# Altium schematic symbol library SchLib_Main.SchLib: 425 symbols (part 10 of 11)
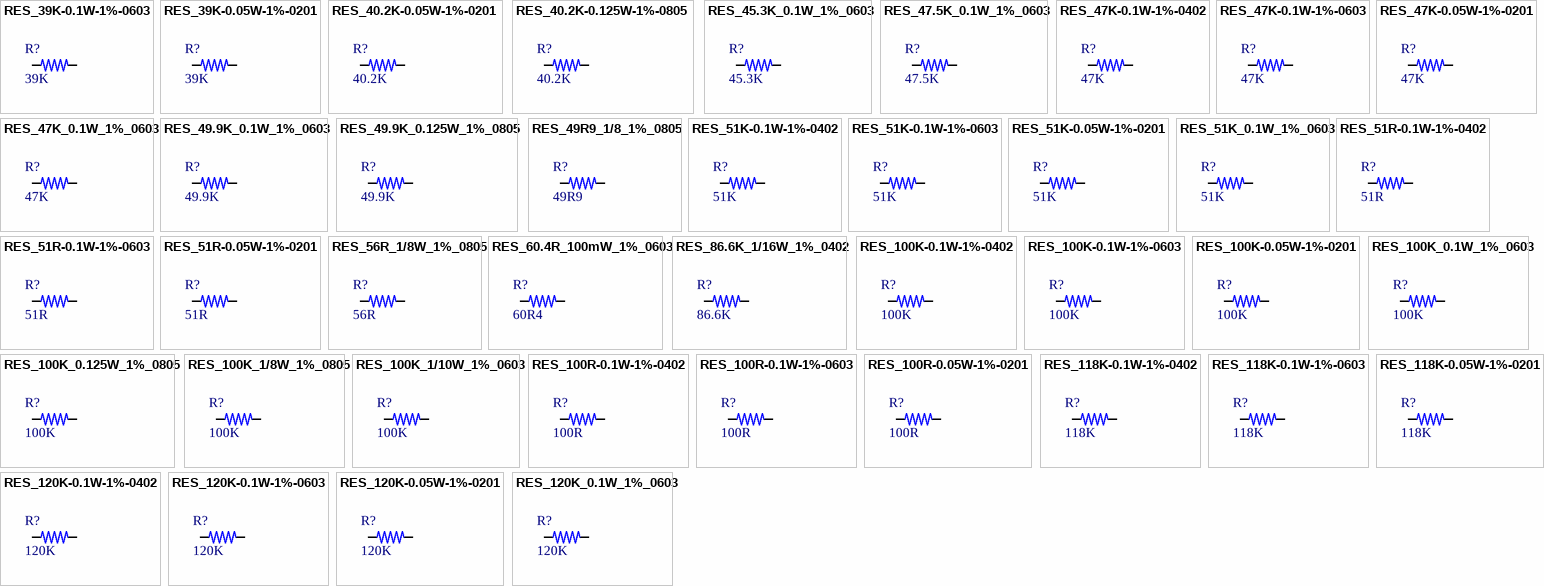
[diagram p25: symbols RES_39K-0.1W-1%-0603 to RES_120K_0.1W_1%_0603]

## RES_100R-0.1W-1%-0603
designator R?, comment 100R
100 Ohms ±1% 0.1W, 1/10W Chip Resistor 0603 (1608 Metric) Thick Film /; Manufacturer: Yageo; Manufacturer Part Number: RC0603FR-07100RL; Case/Package: 0603; Supplier-1: Digikey
footprint RES_0603 (CASE: 0603)
pins: 1, 2

## RES_100R-0.05W-1%-0201
designator R?, comment 100R
100 kOhms ±1% 0.05W, 1/20W Chip Resistor 0201 (0603 Metric) Automotive AEC-Q200 Thick Film /; Manufacturer: Panasonic Electronic Components; Manufacturer Part Number: ERJ-1GNF1003C; Case/Package: 0201; Supplier-1: Digikey
footprint RES_0201
pins: 1, 2

## RES_118K-0.1W-1%-0402
designator R?, comment 118K
118 kOhms ±1% 0.1W, 1/10W Chip Resistor 0402 (1005 Metric) Automotive AEC-Q200, Moisture Resistant Thick Film /; Manufacturer: KOA Speer Electronics, Inc.; Manuafcturer Part Number: RK73H1ETTP1183F; Case/Package: 0402; Supplier-1: Digikey
footprint RES_0402
pins: 1, 2

## RES_118K-0.1W-1%-0603
designator R?, comment 118K
118 kOhms ±1% 0.1W, 1/10W Chip Resistor 0603 (1608 Metric) Automotive AEC-Q200 Thick Film /; Manufacturer: Stackpole Electronics Inc; Manuafcturer Part Number: RMCF0603FT118K; Case/Package: 0603; Supplier-1: Digikey
footprint RES_0603 (CASE: 0603)
pins: 1, 2

## RES_118K-0.05W-1%-0201
designator R?, comment 118K
118 kOhms ±1% 0.05W, 1/20W Chip Resistor 0201 (0603 Metric) Automotive AEC-Q200 Thick Film /; Manufacturer: Panasonic Electronic Components; Manuafcturer Part Number: ERJ-1GNF1183C; Case/Package: 0201; Supplier-1: Digikey
footprint RES_0201
pins: 1, 2

## RES_120K-0.1W-1%-0402
designator R?, comment 120K
120 kOhms ±1% 0.1W, 1/10W Chip Resistor 0402 (1005 Metric) Anti-Sulfur Thin Film /; Manufacturer: Vishay Beyschlag/Draloric/BC Components; Manufacturer Part Number: MCS04020C1203FE000; Case/Package: 0402; Supplier-1: Digikey
footprint RES_0402
pins: 1, 2

## RES_120K-0.1W-1%-0603
designator R?, comment 120K
120 kOhms ±1% 0.1W, 1/10W Chip Resistor 0603 (1608 Metric) Thin Film /; Manufacturer: Yageo; Manufacturer Part Number: RT0603FRE07120KL; Case/Package: 0603; Supplier-1: Digikey
footprint RES_0603 (CASE: 0603)
pins: 1, 2

## RES_120K-0.05W-1%-0201
designator R?, comment 120K
120 kOhms ±1% 0.05W, 1/20W Chip Resistor 0201 (0603 Metric) Thick Film /; Manufacturer: Yageo; Manufacturer Part Number: RC0201FR-07120KL; Case/Package: 0402; Supplier-1: Digikey
footprint RES_0201
pins: 1, 2

## RES_120K_0.1W_1%_0603
designator R?, comment 120K
Fixed Resistor, Metal Glaze/thick Film, 0.1W, 120000ohm, 75V, 1% +/-Tol, 100ppm/Cel, Surface Mount, 0603; Manufacturer: Yageo; Manufacturer Part Number: RC0603FR-13120KL; Additional Feature: LASER TRIMMABLE; Power: 100mW; Rated Temperature: 70°C; Value: 120kR; Temperature Coefficient: 100ppm/°C; Package Height: 0.45mm; Package Length: 1.6mm; Package Width: 0.8mm; Supplier: Digi-Key; Supplier Part Number: 13-RC0603FR-13120KLCT-ND; RoHS: Yes; Category: Chip SMD Resistors; Stock: 49277; Pricing: 1=0.1, 10=0.019, 50=0.0112, 100=0.0093, 500=0.00622, 1000=0.00532, 5000=0.00382, 10000=0.00335 (USD); Mounting Technology: Surface Mount; Pins: 2; Package Shape: Rectangular; Case/Package: 0603; Terminal Finish: Nickel; Min Operating Temperature: -55°C; Max Operating Temperature: 155°C; Tolerance: 1%; JESD-609 Code: e3; Resistor Type: FIXED RESISTOR; Construction: Chip; Package Style: SMTMeter; Packaging: Tape and Reel; Technology: METAL GLAZE/THICK FILM; Termination: Wraparound; Working Voltage: 75V; Reach SVHC Compliant: Yes; RoHS Compliant: Yes; ComponentLink1URL: https://datasheet.ciiva.com:443/pdfs/VipMasterIC/IC/YAGO/YAGO-S-A0008145938/YAGO-S-A0008145938-1.pdf?src-supplier=IHS+Markit; ComponentLink1Description: https://datasheet.ciiva.com:443/pdfs/VipMasterIC/IC/YAGO/YAGO-S-A0008145938/YAGO-S-A0008145938-1.pdf?src-supplier=IHS+Markit; ComponentLink2URL: https://datasheet.ciiva.com/12561/rc0603-272842-12561404.pdf?src-supplier=Mouser; ComponentLink2Description: https://datasheet.ciiva.com/12561/rc0603-272842-12561404.pdf?src-supplier=Mouser; Supplier 1: Digi-Key; Supplier Part Number 1: 13-RC0603FR-13120KLCT-ND
footprint RES_0603
pins: 1, 2

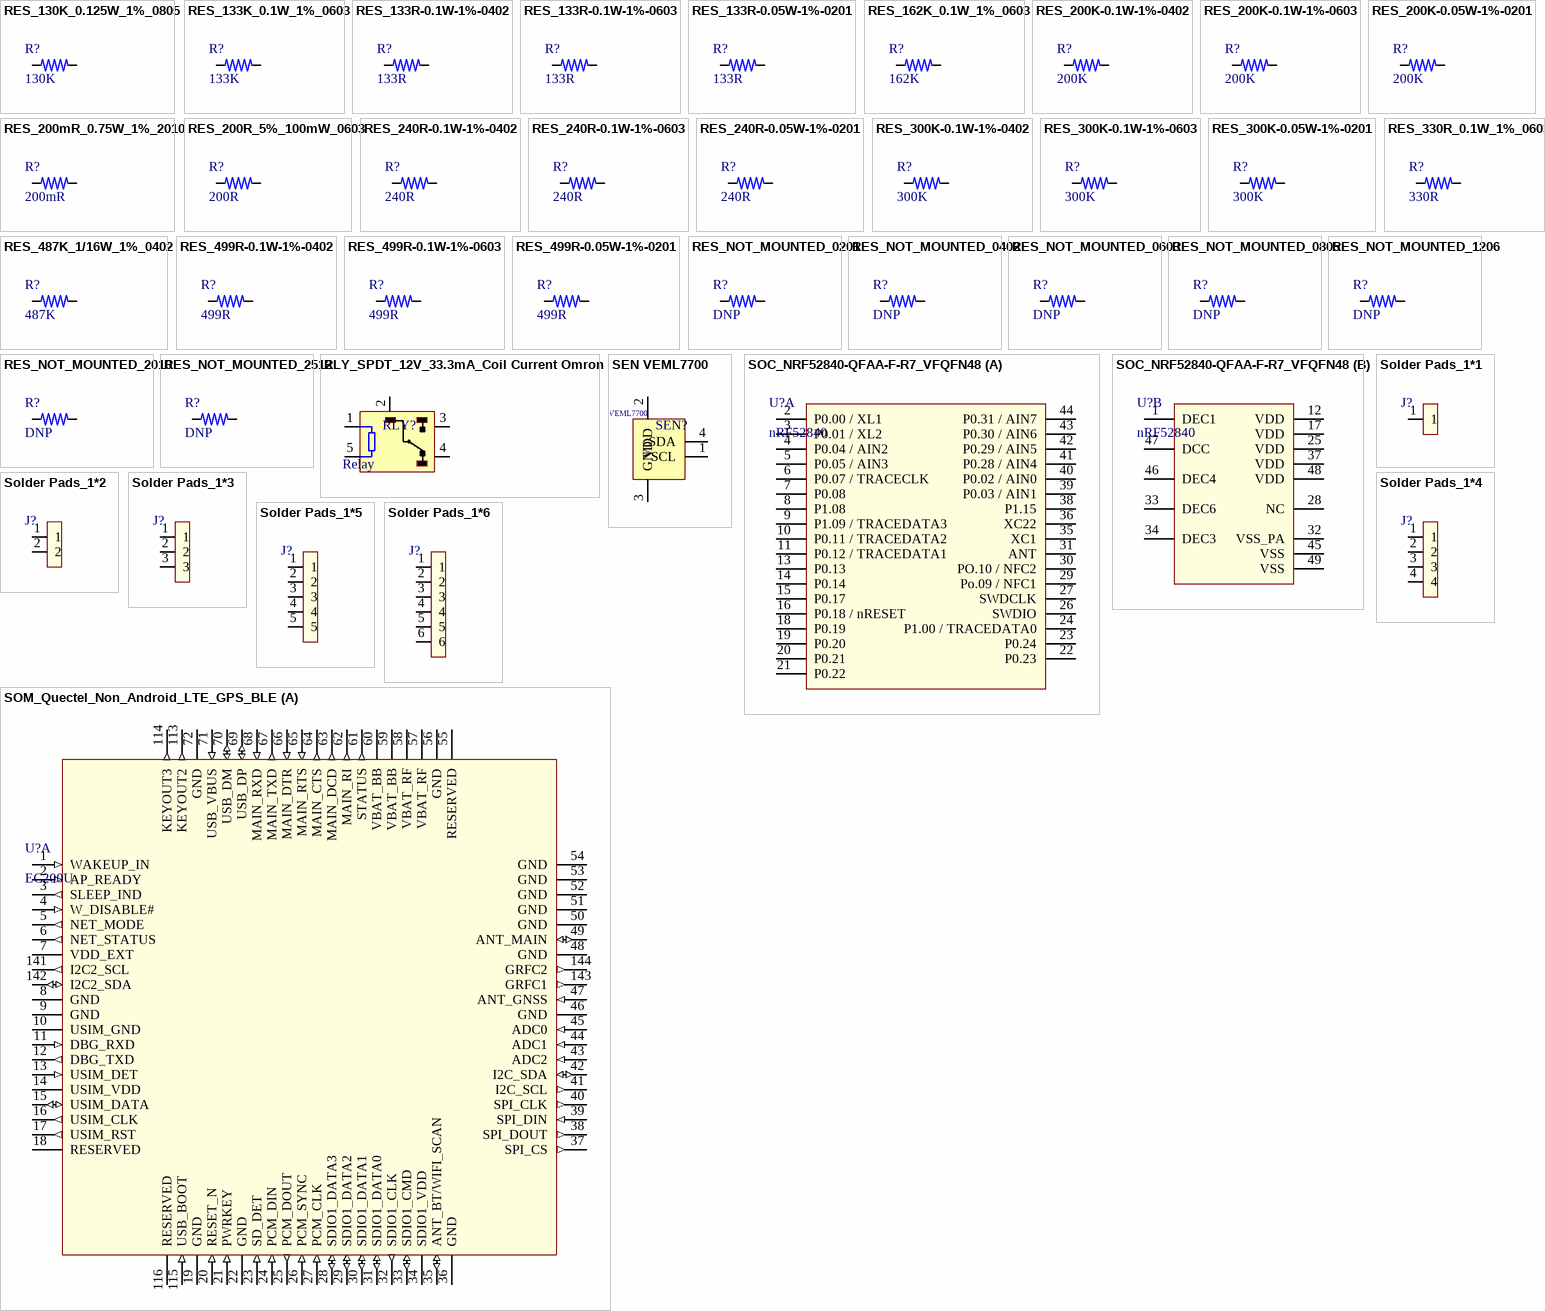
[diagram p15: symbols RES_130K_0.125W_1%_0805 to SOM_Quectel_Non_Android_LTE_GPS_BLE]

## RES_130K_0.125W_1%_0805
designator R?, comment 130K
Fixed Resistor, Metal Glaze/thick Film, 0.125W, 130000ohm, 150V, 1% +/-Tol, 100ppm/Cel, Surface Mount, 0805; Manufacturer: Yageo; Manufacturer Part Number: RC0805FR-07130KL; Additional Feature: LASER TRIMMABLE; Power: 125mW; Rated Temperature: 70°C; Value: 130kR; Temperature Coefficient: 100ppm/°C; Package Height: 0.5mm; Package Length: 2mm; Package Width: 1.25mm; Supplier: Digikey; Supplier Part Number: 311-130KCRCT-ND; RoHS: Yes; Category: Chip SMD Resistors; Stock: 42486; Pricing: 1=0.1, 10=0.026, 50=0.0164, 100=0.0137, 500=0.00936, 1000=0.00808 (USD); Mounting Technology: Surface Mount; Pins: 2; Package Shape: Rectangular; Case/Package: 0805; Terminal Finish: Nickel; Min Operating Temperature: -55°C; Max Operating Temperature: 155°C; Tolerance: 1%; JESD-609 Code: e3; Resistor Type: FIXED RESISTOR; Construction: Chip; Package Style: SMTMeter; Packaging: Tape and Reel; Technology: METAL GLAZE/THICK FILM; Termination: Wraparound; Working Voltage: 150V; Reach SVHC Compliant: Yes; RoHS Compliant: Yes; ComponentLink1URL: https://datasheet.ciiva.com:443/pdfs/VipMasterIC/IC/YAGO/YAGO-S-A0008145938/YAGO-S-A0008145938-1.pdf?src-supplier=IHS+Markit; ComponentLink1Description: https://datasheet.ciiva.com:443/pdfs/VipMasterIC/IC/YAGO/YAGO-S-A0008145938/YAGO-S-A0008145938-1.pdf?src-supplier=IHS+Markit; ComponentLink2URL: https://datasheet.ciiva.com/2457/pyu-r-int-thick-7-2457455.pdf?src-supplier=Digikey; ComponentLink2Description: https://datasheet.ciiva.com/2457/pyu-r-int-thick-7-2457455.pdf?src-supplier=Digikey; ComponentLink3URL: https://datasheet.ciiva.com/2457/pyu-r-int-thick-7-2457456.pdf?src-supplier=Digikey; ComponentLink3Description: https://datasheet.ciiva.com/2457/pyu-r-int-thick-7-2457456.pdf?src-supplier=Digikey; ComponentLink4URL: https://datasheet.ciiva.com/2457/pyu-r-int-thick-7-2457457.pdf?src-supplier=Digikey; ComponentLink4Description: https://datasheet.ciiva.com/2457/pyu-r-int-thick-7-2457457.pdf?src-supplier=Digikey
footprint RES_0805
pins: 1, 2

## RES_133K_0.1W_1%_0603
designator R?, comment 133K
Fixed Resistor, Metal Glaze/thick Film, 0.1W, 133000ohm, 75V, 1% +/-Tol, 100ppm/Cel, Surface Mount, 0603; Manufacturer: Yageo; Manufacturer Part Number: RC0603FR-07133KL; Additional Feature: LASER TRIMMABLE; Power: 100mW; Rated Temperature: 70°C; Value: 133kR; Temperature Coefficient: 100ppm/°C; Package Height: 0.45mm; Package Length: 1.6mm; Package Width: 0.8mm; Supplier: Digikey; Supplier Part Number: 311-133KHRCT-ND; RoHS: Yes; Category: Chip SMD Resistors; Stock: 227173; Pricing: 1=0.1, 10=0.02, 50=0.0118, 100=0.0098, 500=0.00656, 1000=0.0056 (USD); Mounting Technology: Surface Mount; Pins: 2; Package Shape: Rectangular; Case/Package: 0603; Terminal Finish: Nickel; Min Operating Temperature: -55°C; Max Operating Temperature: 155°C; Tolerance: 1%; JESD-609 Code: e3; Resistor Type: FIXED RESISTOR; Construction: Chip; Package Style: SMTMeter; Packaging: Tape and Reel; Technology: METAL GLAZE/THICK FILM; Termination: Wraparound; Working Voltage: 75V; Reach SVHC Compliant: Yes; RoHS Compliant: Yes; ComponentLink1URL: https://datasheet.ciiva.com:443/pdfs/VipMasterIC/IC/YAGO/YAGO-S-A0008145938/YAGO-S-A0008145938-1.pdf?src-supplier=IHS+Markit; ComponentLink1Description: https://datasheet.ciiva.com:443/pdfs/VipMasterIC/IC/YAGO/YAGO-S-A0008145938/YAGO-S-A0008145938-1.pdf?src-supplier=IHS+Markit; ComponentLink2URL: https://datasheet.ciiva.com/12558/rc0603-272842-12558909.pdf?src-supplier=Mouser; ComponentLink2Description: https://datasheet.ciiva.com/12558/rc0603-272842-12558909.pdf?src-supplier=Mouser; ComponentLink3URL: https://datasheet.ciiva.com/2491/pyu-r-int-thick-7-2491337.pdf?src-supplier=Digikey; ComponentLink3Description: https://datasheet.ciiva.com/2491/pyu-r-int-thick-7-2491337.pdf?src-supplier=Digikey; ComponentLink4URL: https://datasheet.ciiva.com/2491/pyu-r-int-thick-7-2491338.pdf?src-supplier=Digikey; ComponentLink4Description: https://datasheet.ciiva.com/2491/pyu-r-int-thick-7-2491338.pdf?src-supplier=Digikey; ComponentLink5URL: https://datasheet.ciiva.com/2491/pyu-r-int-thick-7-2491336.pdf?src-supplier=Digikey; ComponentLink5Description: https://datasheet.ciiva.com/2491/pyu-r-int-thick-7-2491336.pdf?src-supplier=Digikey
footprint RES_0603
pins: 1, 2

## RES_133R-0.1W-1%-0402
designator R?, comment 133R
133 Ohms ±1% 0.1W, 1/10W Chip Resistor 0402 (1005 Metric) Automotive AEC-Q200 Thick Film /; Manufacturer: Panasonic Electronic Components; Manufacturer Part Number: ERJ-2RKF1330X; Case/Package: 0402; Supplier-1: Digikey
footprint RES_0402
pins: 1, 2

## RES_133R-0.1W-1%-0603
designator R?, comment 133R
133 Ohms ±1% 0.1W, 1/10W Chip Resistor 0603 (1608 Metric) Automotive AEC-Q200 Thick Film /; Manufacturer: Stackpole Electronics Inc; Manufacturer Part Number: RMCF0603FT133R; Case/Package: 0603; Supplier-1: Digikey
footprint RES_0603 (CASE: 0603)
pins: 1, 2

## RES_133R-0.05W-1%-0201
designator R?, comment 133R
133 Ohms ±1% 0.05W, 1/20W Chip Resistor 0201 (0603 Metric) Automotive AEC-Q200 Thick Film /; Manufacturer: Panasonic Electronic Components; Manufacturer Part Number: ERJ-1GNF1330C; Case/Package: 0201; Supplier-1: Digikey
footprint RES_0201
pins: 1, 2

## RES_162K_0.1W_1%_0603
designator R?, comment 162K
Fixed Resistor, Metal Glaze/thick Film, 0.1W, 162000ohm, 75V, 1% +/-Tol, 100ppm/Cel, Surface Mount, 0603; Manufacturer: Yageo; Manufacturer Part Number: RC0603FR-07162KL; Additional Feature: LASER TRIMMABLE; Power: 100mW; Rated Temperature: 70°C; Value: 162kR; Temperature Coefficient: 100ppm/°C; Package Height: 0.45mm; Package Length: 1.6mm; Package Width: 0.8mm; Supplier: Digikey; Supplier Part Number: 311-162KHRCT-ND; RoHS: Yes; Category: Chip SMD Resistors; Stock: 110580; Pricing: 1=0.1, 10=0.019, 50=0.0112, 100=0.0093, 500=0.00622, 1000=0.00532 (USD); Mounting Technology: Surface Mount; Pins: 2; Package Shape: Rectangular; Case/Package: 0603; Terminal Finish: Nickel; Min Operating Temperature: -55°C; Max Operating Temperature: 155°C; Tolerance: 1%; JESD-609 Code: e3; Resistor Type: FIXED RESISTOR; Construction: Chip; Package Style: SMTMeter; Packaging: Tape and Reel; Technology: METAL GLAZE/THICK FILM; Termination: Wraparound; Working Voltage: 75V; Reach SVHC Compliant: Yes; RoHS Compliant: Yes; ComponentLink1URL: https://datasheet.ciiva.com:443/pdfs/VipMasterIC/IC/YAGO/YAGO-S-A0008145938/YAGO-S-A0008145938-1.pdf?src-supplier=IHS+Markit; ComponentLink1Description: https://datasheet.ciiva.com:443/pdfs/VipMasterIC/IC/YAGO/YAGO-S-A0008145938/YAGO-S-A0008145938-1.pdf?src-supplier=IHS+Markit; ComponentLink2URL: https://datasheet.ciiva.com/11819/0900766b80f96399-11819240.pdf?src-supplier=Rs; ComponentLink2Description: https://datasheet.ciiva.com/11819/0900766b80f96399-11819240.pdf?src-supplier=Rs
footprint RES_0603
pins: 1, 2

## RES_200K-0.1W-1%-0402
designator R?, comment 200K
200 kOhms ±1% 0.1W, 1/10W Chip Resistor 0402 (1005 Metric) Automotive AEC-Q200 Thick Film /; Manufacturer: Panasonic Electronic Components; Manufacturer Part number: ERJ-2RKF2003X; Case/Package: 0402; Supplier-1: Digikey
footprint RES_0402
pins: 1, 2

## RES_200K-0.1W-1%-0603
designator R?, comment 200K
200 kOhms ±1% 0.1W, 1/10W Chip Resistor 0603 (1608 Metric) Thick Film /; Manufacturer: Yageo; Manufacturer Part number: RC0603FR-07200KL; Case/Package: 0603; Supplier-1: Digikey
footprint RES_0603 (CASE: 0603)
pins: 1, 2

## RES_200K-0.05W-1%-0201
designator R?, comment 200K
200 kOhms ±1% 0.05W, 1/20W Chip Resistor 0201 (0603 Metric) Thick Film /; Manufacturer: Stackpole Electronics Inc; Manufacturer Part number: RMCF0201FT200K; Case/Package: 0201; Supplier-1: Digikey
footprint RES_0201
pins: 1, 2

## RES_200mR_0.75W_1%_2010
designator R?, comment 200mR
Fixed Resistor, Metal Glaze/thick Film, 0.75W, 0.2ohm, 0.387V, 1% +/-Tol, 75ppm/Cel, Surface Mount, 2010; Manufacturer: Yageo; Manufacturer Part Number: PT2010FK-070R2L; Supplier: Mouser; Supplier Part Number: 603-PT2010FK-070R2L; RoHS: Yes; Category: Chip SMD Resistors; Stock: 10779; Pricing: 1=0.59, 10=0.258, 50=0.258, 100=0.139, 1000=0.106, 10000=0.085 (USD); ComponentLink1URL: https://datasheet.ciiva.com:443/pdfs/VipMasterIC/IC/YAGO/YAGO-S-A0005429913/YAGO-S-A0005429913-1.pdf?src-supplier=IHS+Markit; ComponentLink1Description: https://datasheet.ciiva.com:443/pdfs/VipMasterIC/IC/YAGO/YAGO-S-A0005429913/YAGO-S-A0005429913-1.pdf?src-supplier=IHS+Markit; ComponentLink2URL: http://www.mouser.com/ds/2/447/yageodocoutput-1101729.pdf?src-supplier=Mouser; ComponentLink2Description: http://www.mouser.com/ds/2/447/yageodocoutput-1101729.pdf?src-supplier=Mouser; ComponentLink3URL: http://www.yageo.com/documents/recent/PYu-PT-Group_521_RoHS_L-1.pdf?src-supplier=Digikey; ComponentLink3Description: http://www.yageo.com/documents/recent/PYu-PT-Group_521_RoHS_L-1.pdf?src-supplier=Digikey
footprint RES_2010
pins: 1, 2

## RES_200R_5%_100mW_0603
designator R?, comment 200R
Anti-Sulfurated Chip Resistor Thick Film 0603 200Ohm 5% Paper T/R; Manufacturer: Yageo; Manufacturer Part Number: AF0603JR-07200RL; Max Power Dissipation: 100mW; Temperature Coefficient: 100ppm/°C; Supplier 1: Digi-Key; RoHS: Yes; Category: Chip SMD Resistors; Stock 1: 4765; Pricing 1: 1=0.1, 10=0.023, 50=0.0146, 100=0.0122, 500=0.00832, 1000=0.00718 (USD); Case/Package: 0603; Min Operating Temperature: -55°C; Max Operating Temperature: 155°C; Packaging: Tape and Reel; Resistance: 200R; Number of Terminations: 2; Tolerance: 5%; Features: Moisture Resistant,Anti-Sulfur; Series: AF; Length: 0.063inch; Width: 0.031inch; Height: 0.022inch; RoHS Compliant: Yes; ComponentLink1URL: http://www.yageo.com/documents/recent/PYu-AF_51_RoHS_L_5.pdf?src-supplier=Digi-Key; ComponentLink1Description: http://www.yageo.com/documents/recent/PYu-AF_51_RoHS_L_5.pdf?src-supplier=Digi-Key; Supplier Part Number 1: 13-AF0603JR-07200RLDKR-ND
footprint RES_0603
pins: 1, 2

## RES_240R-0.1W-1%-0402
designator R?, comment 240R
SMD Chip Resistor, 240 Ohm, ± 1%, 100 mW, 0402 [1005 Metric], Thick Film, Precision; Manufacturer 1: Panasonic; Manufacturer Part Number 1: ERJ-2RKF2400X; Power Rating: 100mW; Voltage Rating: 50V; Temperature Coefficient: 100ppm/°C; Supplier 1: Digi-Key; RoHS: Yes; Category: Chip SMD Resistors; Stock 1: 5179028; Pricing 1: 1=0.1, 10=0.029, 50=0.0162, 100=0.0119, 500=0.00728, 1000=0.00535, 5000=0.00384 (USD); Mount: Surface Mount; Case/Package: 0402; Case Code (Metric): 1005; Case Code (Imperial): 0402; Contact Plating: Tin; Min Operating Temperature: -55°C; Max Operating Temperature: 155°C; Resistance: 240R; Tolerance: 1%; Packaging: Tape and Reel; Package Quantity: 1; Resistor Type: Thick Film; Number of Terminations: 2; Termination: SMD/SMT; Max Power Dissipation: 100mW; Voltage Rating (DC): 50V; Working Voltage: 50V; Features: Automotive AEC-Q200; Series: ERJ; Resistance Tolerance: 1%; Technology: THICK FILM; Construction: Rectangular; Length: 1mm; Width: 0.5mm; Height: 0.35mm; Depth: 0.5mm; Radiation Hardening: No; Reach SVHC Compliant: No; Military Standard: Not; Lead Free: Lead Free; RoHS Compliant: Yes; ComponentLink1URL: https://datasheet.ciiva.com/43460/426256-43460285.pdf?src-supplier=Farnell; ComponentLink1Description: https://datasheet.ciiva.com/43460/426256-43460285.pdf?src-supplier=Farnell; ComponentLink2URL: https://datasheet.ciiva.com/5915/426256-5915279.pdf?src-supplier=Farnell; ComponentLink2Description: https://datasheet.ciiva.com/5915/426256-5915279.pdf?src-supplier=Farnell; ComponentLink3URL: https://datasheet.ciiva.com/46377/426256-46377989.pdf?src-supplier=Element14; ComponentLink3Description: https://datasheet.ciiva.com/46377/426256-46377989.pdf?src-supplier=Element14; ComponentLink4URL: https://datasheet.ciiva.com/28577/1678782-28577704.pdf?src-supplier=Element14; ComponentLink4Description: https://datasheet.ciiva.com/28577/1678782-28577704.pdf?src-supplier=Element14; ComponentLink5URL: https://datasheet.ciiva.com/28675/1678782-28675804.pdf?src-supplier=Element14; ComponentLink5Description: https://datasheet.ciiva.com/28675/1678782-28675804.pdf?src-supplier=Element14; ComponentLink6URL: https://datasheet.ciiva.com/24071/aoa0000ce2-24071911.pdf?src-supplier=Mouser; ComponentLink6Description: https://datasheet.ciiva.com/24071/aoa0000ce2-24071911.pdf?src-supplier=Mouser; ComponentLink7URL: https://datasheet.ciiva.com/16767/70260748-16767689.pdf?src-supplier=Allied+Electronics; ComponentLink7Description: https://datasheet.ciiva.com/16767/70260748-16767689.pdf?src-supplier=Allied+Electronics; Supplier Part Number 1: P240LDKR-ND
footprint RES_0402
pins: 1, 2

## RES_240R-0.1W-1%-0603
designator R?, comment 240R
240 Ohms ±1% 0.1W, 1/10W Chip Resistor 0603 (1608 Metric) Automotive AEC-Q200 Thick Film /; Manufacturer: Stackpole Electronics Inc; Manufacturer Part Number: RMCF0603FT240R; Case/Package: 0603; Supplier-1: Digikey
footprint RES_0603 (CASE: 0603)
pins: 1, 2

## RES_240R-0.05W-1%-0201
designator R?, comment 240R
240 Ohms ±1% 0.05W, 1/20W Chip Resistor 0201 (0603 Metric) Thick Film /; Manufacturer: Yageo; Manufacturer Part Number: RC0201FR-07240RL; Case/Package: 0201; Supplier-1: Digikey
footprint RES_0201
pins: 1, 2

## RES_300K-0.1W-1%-0402
designator R?, comment 300K
300 kOhms ±1% 0.1W, 1/10W Chip Resistor 0402 (1005 Metric) Automotive AEC-Q200 Thick Film /; Manufacturer: Panasonic Electronic Components; Manufacturer Part Number: ERJ-2RKF3003X; Case/Package: 0402; Supplier-1: Digikey
footprint RES_0402
pins: 1, 2

## RES_300K-0.1W-1%-0603
designator R?, comment 300K
300 kOhms ±1% 0.1W, 1/10W Chip Resistor 0603 (1608 Metric) Automotive AEC-Q200 Thick Film /; Manufacturer: Stackpole Electronics Inc; Manufacturer Part Number: RMCF0603FT300KCT-ND; Case/Package: 0603; Supplier-1: Digikey
footprint RES_0603 (CASE: 0603)
pins: 1, 2

## RES_300K-0.05W-1%-0201
designator R?, comment 300K
300 kOhms ±1% 0.05W, 1/20W Chip Resistor 0201 (0603 Metric) Automotive AEC-Q200 Thick Film /; Manufacturer: Panasonic Electronic Components; Manufacturer Part Number: ERJ-1GNF3003C; Case/Package: 0201; Supplier-1: Digikey
footprint RES_0201
pins: 1, 2

## RES_330R_0.1W_1%_0603
designator R?, comment 330R
Fixed Resistor, Metal Glaze/thick Film, 0.1W, 330ohm, 75V, 1% +/-Tol, 100ppm/Cel, Surface Mount, 0603; Manufacturer: Yageo; Manufacturer Part Number: RC0603FR-13330RL; Additional Feature: LASER TRIMMABLE; Power: 100mW; Rated Temperature: 70°C; Temperature Coefficient: 100ppm/°C; Package Height: 0.45mm; Package Length: 1.6mm; Package Width: 0.8mm; Supplier: Digi-Key; Supplier Part Number: 13-RC0603FR-13330RLCT-ND; RoHS: Yes; Category: Chip SMD Resistors; Stock: 32231; Pricing: 1=0.1, 10=0.019, 50=0.0112, 100=0.0093, 500=0.00622, 1000=0.00532, 5000=0.00382, 10000=0.00335 (USD); Mounting Technology: Surface Mount; Pins: 2; Package Shape: Rectangular; Case/Package: 0603; Terminal Finish: Nickel; Min Operating Temperature: -55°C; Max Operating Temperature: 155°C; Tolerance: 1%; JESD-609 Code: e3; Resistor Type: FIXED RESISTOR; Construction: Chip; Package Style: SMTMeter; Packaging: Tape and Reel; Value: 330R; Technology: METAL GLAZE/THICK FILM; Termination: Wraparound; Working Voltage: 75V; Reach SVHC Compliant: Yes; RoHS Compliant: Yes; ComponentLink1URL: https://datasheet.ciiva.com:443/pdfs/VipMasterIC/IC/YAGO/YAGO-S-A0008145938/YAGO-S-A0008145938-1.pdf?src-supplier=IHS+Markit; ComponentLink1Description: https://datasheet.ciiva.com:443/pdfs/VipMasterIC/IC/YAGO/YAGO-S-A0008145938/YAGO-S-A0008145938-1.pdf?src-supplier=IHS+Markit; ComponentLink2URL: https://datasheet.ciiva.com/12561/rc0603-272842-12561430.pdf?src-supplier=Mouser; ComponentLink2Description: https://datasheet.ciiva.com/12561/rc0603-272842-12561430.pdf?src-supplier=Mouser
footprint RES_0603
pins: 1, 2

## RES_487K_1/16W_1%_0402
designator R?, comment 487K
SMD Chip Resistor, 487 kOhm, ± 1%, 63 mW, 0402 [1005 Metric], Thick Film, General Purpose; Manufacturer: Yageo; Manufacturer Part Number: RC0402FR-07487KL; Supplier 1: Future Electronics; RoHS: Yes; Category: Chip SMD Resistors; Stock 1: 60000; Pricing 1: 10000=0.0008, 50000=0.0008, 300000=0.0007, 1000000=0.0007, 3000000=0.0007 (USD); ComponentLink1URL: https://datasheet.ciiva.com/12575/pyu-rc0402-51-rohs-l-6-r-8721-12575610.pdf?src-supplier=Mouser; ComponentLink1Description: https://datasheet.ciiva.com/12575/pyu-rc0402-51-rohs-l-6-r-8721-12575610.pdf?src-supplier=Mouser
footprint RES_0402
pins: 1, 2

## RES_499R-0.1W-1%-0402
designator R?, comment 499R
499 Ohms ±1% 0.1W, 1/10W Chip Resistor 0402 (1005 Metric) Automotive AEC-Q200, Moisture Resistant Thick Film /; Manufacturer: KOA Speer Electronics, Inc.; Manufacturer Part Number: RK73H1ETTP4990F; Case/Package: 0402; Supplier-1: Digikey
footprint RES_0402
pins: 1, 2

## RES_499R-0.1W-1%-0603
designator R?, comment 499R
Res Thick Film 0603 499 Ohm 1% 0.1W(1/10W) ±100ppm/C Pad SMD Automotive T/R; Manufacturer: Stackpole Electronics Inc; Manufacturer Part Number: RMCF0603FT499R; Manufacturer 1: Stackpole Electronics; Case/Package: 0603; Supplier-1: Digikey; Supplier 1: Digi-Key; Manufacturer Part Number 1: RMCF0603FT499R; RoHS: Yes; Category: Chip SMD Resistors; Stock 1: 590715; Pricing 1: 1=0.1, 10=0.014, 50=0.0086, 100=0.0071, 500=0.00474, 1000=0.00404 (USD); ComponentLink1URL: https://datasheet.ciiva.com/15193/getdatasheetpartid-408767-15193483.pdf?src-supplier=Verical; ComponentLink1Description: https://datasheet.ciiva.com/15193/getdatasheetpartid-408767-15193483.pdf?src-supplier=Verical; Supplier Part Number 1: RMCF0603FT499RCT-ND
footprint RES_0603 (CASE: 0603)
pins: 1, 2

## RES_499R-0.05W-1%-0201
designator R?, comment 499R
499 Ohms ±1% 0.05W, 1/20W Chip Resistor 0201 (0603 Metric) Thick Film /; Manufacturer: Stackpole Electronics Inc; Manufacturer Part Number: RMCF0201FT499R; Case/Package: 0201; Supplier-1: Digikey
footprint RES_0201
pins: 1, 2

## RES_NOT_MOUNTED_0201
designator R?, comment DNP
Resistor Do not place 0201
footprint RES_0201
pins: 1, 2

## RES_NOT_MOUNTED_0402
designator R?, comment DNP
Resistor Do not place 0402
footprint RES_0402
pins: 1, 2

## RES_NOT_MOUNTED_0603
designator R?, comment DNP
Resistor Do not place 0603
footprint RES_0603
pins: 1, 2

## RES_NOT_MOUNTED_0805
designator R?, comment DNP
Resistor Do not place 0805
footprint RES_0805
pins: 1, 2

## RES_NOT_MOUNTED_1206
designator R?, comment DNP
Resistor Do not place 1206
footprint RES_1206
pins: 1, 2

## RES_NOT_MOUNTED_2010
designator R?, comment DNP
Resistor Do not place 2010
footprint RES_2010
pins: 1, 2

## RES_NOT_MOUNTED_2512
designator R?, comment DNP
Resistor Do not place 2512
footprint RES_2512
pins: 1, 2

## RLY_SPDT_12V_33.3mA_Coil Current Omron
designator RLY?  (value not drawn)
RELAY GEN PURPOSE SPDT 10A 12V
footprint Relay_G5Q-14 Omron
pins: 1, 2, 3, 4, 5
text: Relay

## SEN VEML7700
designator SEN?  (value not drawn)
VEML7700 Series 3.6 V 6.8 x 2.35 x 3 mm High Accuracy Ambient Light Sensor; Manufacturer: Vishay; Manufacturer Part Number: VEML7700-TR; Min Supply Voltage (DC): 2.5V; Max Supply Voltage (DC): 3.6V; Wavelength: 545nm; Output Type: I2C; Supplier 1: Mouser; RoHS: Yes; Category: Optical Sensors; Stock 1: 89166; Pricing 1: 1=1.81, 10=0.966, 50=0.966, 100=0.827, 1000=0.672, 10000=0.609 (USD); Mount: Surface Mount; Case/Package: SMD/SMT; Min Operating Temperature: -25°C; Max Operating Temperature: 85°C; Packaging: Cut Tape; Series: -; RoHS Compliant: Yes; Reach SVHC Compliant: Unknown; Lead Free: Lead Free; ComponentLink1URL: https://media.digikey.com/pdf/Data%20Sheets/Vishay%20Semiconductors/VEML7700.pdf?src-supplier=Digi-Key; ComponentLink1Description: https://media.digikey.com/pdf/Data%20Sheets/Vishay%20Semiconductors/VEML7700.pdf?src-supplier=Digi-Key; ComponentLink2URL: http://www.farnell.com/datasheets/2245216.pdf?_ga=2.264302671.1993437627.1504087681-454586224.1503288287&src-supplier=Farnell; ComponentLink2Description: http://www.farnell.com/datasheets/2245216.pdf?_ga=2.264302671.1993437627.1504087681-454586224.1503288287&src-supplier=Farnell; ComponentLink3URL: http://www.farnell.com/datasheets/2006002.pdf?src-supplier=Farnell; ComponentLink3Description: http://www.farnell.com/datasheets/2006002.pdf?src-supplier=Farnell; ComponentLink4URL: http://www.farnell.com/datasheets/2245216.pdf?_ga=2.264302671.1993437627.1504087681-454586224.1503288287&src-supplier=Newark; ComponentLink4Description: http://www.farnell.com/datasheets/2245216.pdf?_ga=2.264302671.1993437627.1504087681-454586224.1503288287&src-supplier=Newark; ComponentLink5URL: http://www.farnell.com/datasheets/2006002.pdf?src-supplier=Element14; ComponentLink5Description: http://www.farnell.com/datasheets/2006002.pdf?src-supplier=Element14
footprint SEN VEML7700
pins: 1 SCL, 2 VDD, 3 GND, 4 SDA
text: VEML7700

## SOC_NRF52840-QFAA-F-R7_VFQFN48
designator U?, comment nRF52840
High-End Multiprotocol Bluetooth LE SoC Bluetooth 5.3/Bluetooth Mesh/Thread/Zigbee/802.15.4/ANT 2.4GHz 1.7V to 5.5V; Manufacturer: Nordic Semiconductor; Manufacturer Part Number: NRF52840-QFAA-F-R7; Supplier 1: Digikey; RoHS: No; Category: RF Receivers, Transceivers; Stock 1: 1272; Pricing 1: 1=5.27, 100=4.49, 500=3.90002 (USD); Supplier Part Number 1: 4823-NRF52840-QFAA-F-R7CT-ND
part A pins: 2 P0.00 / XL1, 3 P0.01 / XL2, 4 P0.04 / AIN2, 5 P0.05 / AIN3, 6 P0.07 / TRACECLK, 7 P0.08, 8 P1.08, 9 P1.09 / TRACEDATA3, 10 P0.11 / TRACEDATA2, 11 P0.12 / TRACEDATA1, 13 P0.13, 14 P0.14, 15 P0.17, 16 P0.18 / nRESET, 18 P0.19, 19 P0.20, 20 P0.21, 21 P0.22, 22 P0.23, 23 P0.24, 24 P1.00 / TRACEDATA0, 26 SWDIO, 27 SWDCLK, 29 Po.09 / NFC1, 30 PO.10 / NFC2, 31 ANT, 35 XC1, 36 XC22, 38 P1.15, 39 P0.03 / AIN1, 40 P0.02 / AIN0, 41 P0.28 / AIN4, 42 P0.29 / AIN5, 43 P0.30 / AIN6, 44 P0.31 / AIN7
part B pins: 1 DEC1, 12 VDD, 17 VDD, 25 VDD, 28 NC, 32 VSS_PA, 33 DEC6, 34 DEC3, 37 VDD, 45 VSS, 46 DEC4, 47 DCC, 48 VDD, 49 VSS

## Solder Pads_1*1
designator J?  (net tie, no BOM)
Solder Pads Pos 1
footprint Solder Pads 1*1
pins: 1

## Solder Pads_1*2
designator J?  (net tie, no BOM)
Solder Pads Pos 2
footprint Solder Pads 2*1
pins: 1, 2

## Solder Pads_1*3
designator J?  (net tie, no BOM)
Solder Pads Pos 3
footprint Solder Pads 3*1
pins: 1, 2, 3

## Solder Pads_1*4
designator J?  (net tie, no BOM)
Solder Pads Pos 4
footprint Solder Pads 4*1
pins: 1, 2, 3, 4

## Solder Pads_1*5
designator J?  (net tie, no BOM)
Solder Pads Pos 5
footprint Solder Pads 5*1
pins: 1, 2, 3, 4, 5

## Solder Pads_1*6
designator J?  (net tie, no BOM)
Solder Pads Pos 6
footprint Solder Pads 6*1
pins: 1, 2, 3, 4, 5, 6

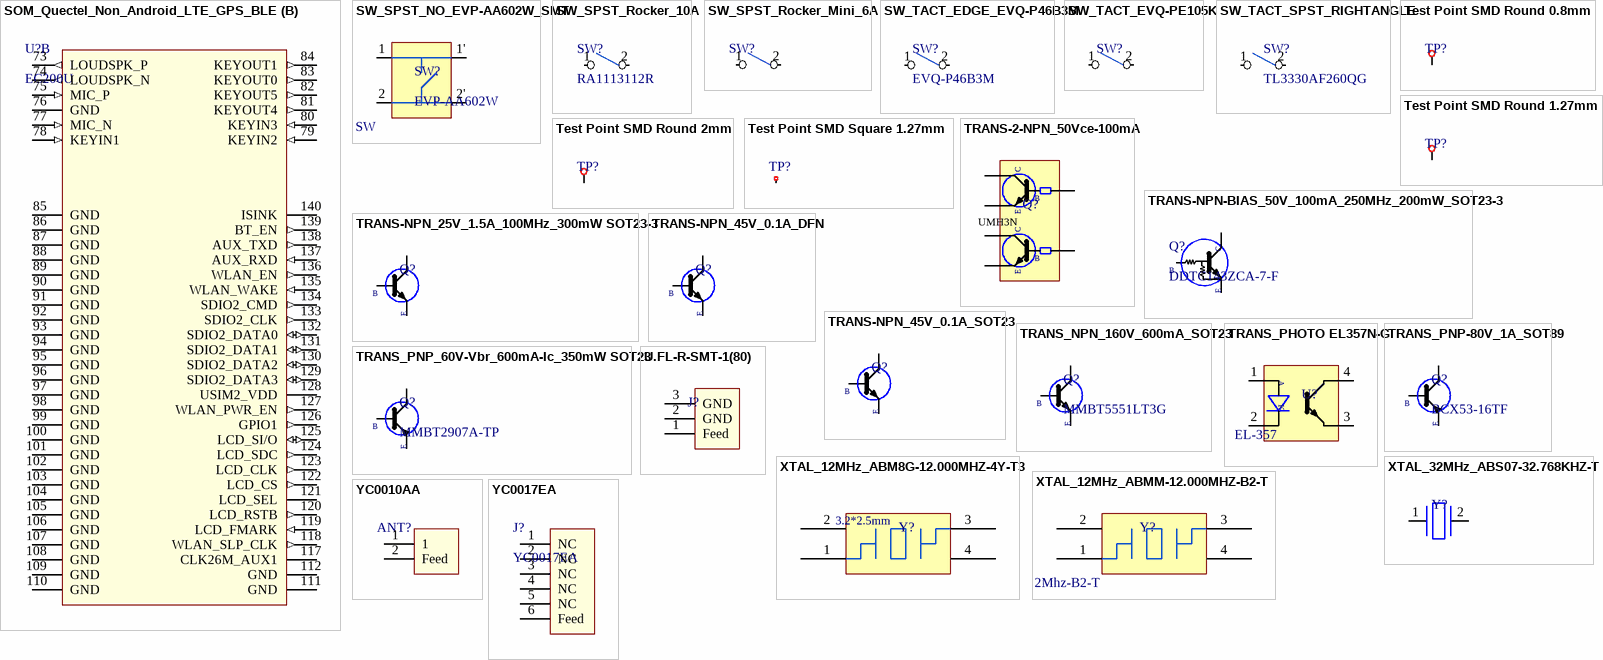
[diagram p16: symbols SOM_Quectel_Non_Android_LTE_GPS_BLE to YC0017EA]

## SOM_Quectel_Non_Android_LTE_GPS_BLE
designator U?, comment EC200U
footprint EC200U-144_PINS
part A pins: 1 WAKEUP_IN (in), 2 AP_READY (in), 3 SLEEP_IND (out), 4 W_DISABLE# (in), 5 NET_MODE (out), 6 NET_STATUS (out), 7 VDD_EXT (power), 8 GND (power), 9 GND (power), 10 USIM_GND (power), 11 DBG_RXD (in), 12 DBG_TXD (out), 13 USIM_DET (in), 14 USIM_VDD (power), 15 USIM_DATA (io), 16 USIM_CLK (out), 17 USIM_RST (out), 18 RESERVED, 19 GND (power), 20 RESET_N (in), 21 PWRKEY (in), 22 GND (power), 23 SD_DET (in), 24 PCM_DIN (in), 25 PCM_DOUT (out), 26 PCM_SYNC (in), 27 PCM_CLK (in), 28 SDIO1_DATA3 (io), 29 SDIO1_DATA2 (io), 30 SDIO1_DATA1 (io), 31 SDIO1_DATA0 (io), 32 SDIO1_CLK (out), 33 SDIO1_CMD (io), 34 SDIO1_VDD (power), 35 ANT_BT/WIFI_SCAN (io), 36 GND (power), 37 SPI_CS (out), 38 SPI_DOUT (out), 39 SPI_DIN (in), 40 SPI_CLK (out), 41 I2C_SCL (out), 42 I2C_SDA (io), 43 ADC2 (in), 44 ADC1 (in), 45 ADC0 (in), 46 GND (power), 47 ANT_GNSS (in), 48 GND (power), 49 ANT_MAIN (io), 50 GND (power), 51 GND (power), 52 GND (power), 53 GND (power), 54 GND (power), 55 RESERVED, 56 GND (power), 57 VBAT_RF (power), 58 VBAT_RF (power), 59 VBAT_BB (power), 60 VBAT_BB (power), 61 STATUS (out), 62 MAIN_RI (out), 63 MAIN_DCD (out), 64 MAIN_CTS (out), 65 MAIN_RTS (in), 66 MAIN_DTR (in), 67 MAIN_TXD (out), 68 MAIN_RXD (in), 69 USB_DP (io), 70 USB_DM (io), 71 USB_VBUS (in), 72 GND (power), 113 KEYOUT2 (out), 114 KEYOUT3 (out), 115 USB_BOOT (in), 116 RESERVED, 141 I2C2_SCL (out), 142 I2C2_SDA (io), 143 GRFC1 (out), 144 GRFC2 (out)
part B pins: 73 LOUDSPK_P (out), 74 LOUDSPK_N (out), 75 MIC_P (in), 76 GND (power), 77 MIC_N (in), 78 KEYIN1 (in), 79 KEYIN2 (in), 80 KEYIN3 (in), 81 KEYOUT4 (out), 82 KEYOUT5 (out), 83 KEYOUT0 (out), 84 KEYOUT1 (out), 85 GND (power), 86 GND (power), 87 GND (power), 88 GND (power), 89 GND (power), 90 GND (power), 91 GND (power), 92 GND (power), 93 GND (power), 94 GND (power), 95 GND (power), 96 GND (power), 97 GND (power), 98 GND (power), 99 GND (power), 100 GND (power), 101 GND (power), 102 GND (power), 103 GND (power), 104 GND (power), 105 GND (power), 106 GND (oe), 107 GND (power), 108 GND (power), 109 GND (power), 110 GND (power), 111 GND (power), 112 GND (power), 117 CLK26M_AUX1, 118 WLAN_SLP_CLK (out), 119 LCD_FMARK (in), 120 LCD_RSTB (out), 121 LCD_SEL, 122 LCD_CS (out), 123 LCD_CLK (out), 124 LCD_SDC (out), 125 LCD_SI/O (io), 126 GPIO1 (out), 127 WLAN_PWR_EN (out), 128 USIM2_VDD (power), 129 SDIO2_DATA3 (io), 130 SDIO2_DATA2 (io), 131 SDIO2_DATA1 (io), 132 SDIO2_DATA0 (io), 133 SDIO2_CLK (out), 134 SDIO2_CMD (out), 135 WLAN_WAKE (in), 136 WLAN_EN (out), 137 AUX_RXD (in), 138 AUX_TXD (out), 139 BT_EN (out), 140 ISINK (power)

## SW_SPST_NO_EVP-AA602W_SMT
designator SW?, comment EVP-AA602W
SWITCH TACTILE SPST-NO 0.02A 15V; Manufacturer: Panasonic; Supplier 1: Mouser; Manufacturer Part Number: EVP-AA602W; RoHS: Yes; Category: Tactile Switches; Stock 1: 3156; Pricing 1: 1=0.86, 10=0.818, 50=0.802, 100=0.682, 1000=0.498, 10000=0.461 (USD); ComponentLink1URL: https://datasheet.ciiva.com/30071/atk0000ce26-30071612.pdf?src-supplier=Onlinecomponents.com; ComponentLink1Description: https://datasheet.ciiva.com/30071/atk0000ce26-30071612.pdf?src-supplier=Onlinecomponents.com; ComponentLink2URL: https://datasheet.ciiva.com/16212/atk0000ce26-16212136.pdf?src-supplier=Future+Electronics; ComponentLink2Description: https://datasheet.ciiva.com/16212/atk0000ce26-16212136.pdf?src-supplier=Future+Electronics; ComponentLink3URL: https://datasheet.ciiva.com/2899/atk0000ce26-2899984.pdf?src-supplier=Digi-Key; ComponentLink3Description: https://datasheet.ciiva.com/2899/atk0000ce26-2899984.pdf?src-supplier=Digi-Key; ComponentLink4URL: https://datasheet.ciiva.com/2899/atk0000ce26-2899985.pdf?src-supplier=Digi-Key; ComponentLink4Description: https://datasheet.ciiva.com/2899/atk0000ce26-2899985.pdf?src-supplier=Digi-Key; ComponentLink5URL: https://datasheet.ciiva.com/2899/atk0000ce26-2899986.pdf?src-supplier=Digi-Key; ComponentLink5Description: https://datasheet.ciiva.com/2899/atk0000ce26-2899986.pdf?src-supplier=Digi-Key; Supplier 2: Digi-Key; Manufacturer 2: Panasonic; Manufacturer Part Number 2: EVP-AA602W; Stock 2: 74087; Pricing 2: 1=0.79, 10=0.759, 25=0.7296, 100=0.6334, 250=0.57796, 500=0.53708, 1000=0.48162, 2500=0.45243 (USD); ComponentLink6URL: https://datasheet.ciiva.com/25603/0900766b810ad3e5-25603922.pdf?src-supplier=Rs; ComponentLink6Description: https://datasheet.ciiva.com/25603/0900766b810ad3e5-25603922.pdf?src-supplier=Rs; ComponentLink7URL: https://datasheet.ciiva.com/8166/atk0000ce26-8166426.pdf?src-supplier=Avnet; ComponentLink7Description: https://datasheet.ciiva.com/8166/atk0000ce26-8166426.pdf?src-supplier=Avnet; Supplier Part Number 2: 10-EVP-AA602WCT-ND
pins: 1, 1' 2, 2 3, 2' 4
text: TACTILE SW

## SW_SPST_Rocker_10A
designator SW?, comment RA1113112R
SWITCH ROCKER SPST 10A 125V; Manufacturer: E-Switch; Supplier 1: Digikey; Manufacturer Part Number: RA1113112R; RoHS: No; Category: Rocker Switches; Stock 1: 16370; Pricing 1: 1=0.67, 10=0.594, 25=0.5636, 50=0.536, 100=0.511, 250=0.48844, 500=0.43834, 1000=0.41329 (USD); ComponentLink1URL: http://www.mouser.com/ds/2/140/RA1-346116.pdf?src-supplier=Mouser; ComponentLink1Description: http://www.mouser.com/ds/2/140/RA1-346116.pdf?src-supplier=Mouser; ComponentLink2URL: https://sten-eswitch-13110800-production.s3.amazonaws.com/system/asset/product_line/data_sheet/81/RA1.pdf?src-supplier=Digikey; ComponentLink2Description: https://sten-eswitch-13110800-production.s3.amazonaws.com/system/asset/product_line/data_sheet/81/RA1.pdf?src-supplier=Digikey; ComponentLink3URL: https://www.e-switch.com/system/asset/product_line/data_sheet/81/RA1.pdf?src-supplier=Digikey; ComponentLink3Description: https://www.e-switch.com/system/asset/product_line/data_sheet/81/RA1.pdf?src-supplier=Digikey; ComponentLink4URL: https://datasheet.octopart.com/RA1113112R-E-Switch-datasheet-41578078.pdf?src-supplier=Electro+Sonic; ComponentLink4Description: https://datasheet.octopart.com/RA1113112R-E-Switch-datasheet-41578078.pdf?src-supplier=Electro+Sonic; ComponentLink5URL: https://datasheet.octopart.com/RA1113112R-E-Switch-datasheet-62278816.pdf?src-supplier=Master+Electronics; ComponentLink5Description: https://datasheet.octopart.com/RA1113112R-E-Switch-datasheet-62278816.pdf?src-supplier=Master+Electronics; Supplier Part Number 1: EG5619-ND
footprint SW_ROCKER
pins: 1, 2 3

## SW_SPST_Rocker_Mini_6A
designator SW?
SWITCH ROCKER MINI SPST 6A 250V
footprint SW_Mini_Rocker
pins: 1, 2

## SW_TACT_EDGE_EVQ-P46B3M
designator SW?, comment EVQ-P46B3M
Switch Tactile N.O. SPST Button J-Bend 0.02A 15VDC 3.5N SMD Automotive T/R; Manufacturer 1: Panasonic; Supplier 1: Digi-Key; Manufacturer Part Number 1: EVQ-P46B3M; RoHS: Yes; Category: Tactile Switches; Stock 1: 16653; Pricing 1: 1=0.87, 10=0.839, 25=0.784, 100=0.6807, 250=0.6194, 500=0.57422, 1000=0.53228 (USD); ComponentLink1URL: https://datasheet.ciiva.com/24076/atv0000ce6-64395-24076389.pdf?src-supplier=Mouser; ComponentLink1Description: https://datasheet.ciiva.com/24076/atv0000ce6-64395-24076389.pdf?src-supplier=Mouser; ComponentLink2URL: https://datasheet.ciiva.com/16439/atk0000ce18-16439710.pdf?src-supplier=Future+Electronics; ComponentLink2Description: https://datasheet.ciiva.com/16439/atk0000ce18-16439710.pdf?src-supplier=Future+Electronics; Supplier Part Number 1: P15504CT-ND
footprint SW_EVQP4 - Edge Mount (EVQ-PE105K)
pins: 1, 2 3

## SW_TACT_EVQ-PE105K
designator SW?  (value not drawn)
Switch Tactile N.O. SPST Rectangular Button J-Bend 0.05A 12VDC 1N SMD Embossed Tape; Manufacturer: Panasonic; Manufacturer Part Number: EVQ-PE105K; Supplier 1: Mouser; RoHS: Yes; Category: Tactile Switches; Stock 1: 4772; Pricing 1: 1=0.63, 10=0.604, 50=0.582, 100=0.504, 1000=0.381, 10000=0.322 (USD); ComponentLink1URL: https://datasheet.ciiva.com/7576/1520559-7576409.pdf?src-supplier=Newark; ComponentLink1Description: https://datasheet.ciiva.com/7576/1520559-7576409.pdf?src-supplier=Newark; ComponentLink2URL: https://datasheet.ciiva.com/8164/atk0000ce7-8164969.pdf?src-supplier=Avnet; ComponentLink2Description: https://datasheet.ciiva.com/8164/atk0000ce7-8164969.pdf?src-supplier=Avnet; ComponentLink3URL: https://datasheet.ciiva.com/46401/1520559-46401323.pdf?src-supplier=Element14; ComponentLink3Description: https://datasheet.ciiva.com/46401/1520559-46401323.pdf?src-supplier=Element14; ComponentLink4URL: https://datasheet.ciiva.com/16438/atk0000ce7-16438091.pdf?src-supplier=Future+Electronics; ComponentLink4Description: https://datasheet.ciiva.com/16438/atk0000ce7-16438091.pdf?src-supplier=Future+Electronics
footprint SW_EVQPN (EVQ-PE105K)
pins: 1, 2 3

## SW_TACT_SPST_RIGHTANGLE
designator SW?, comment TL3330AF260QG
Switch Tactile N.O. SPST Rectangular Button Gull Wing 0.05A 12VDC 2.55N SMD; Manufacturer: E-Switch; Supplier 1: Digi-Key; Manufacturer Part Number: TL3330AF260QG; RoHS: Yes; Category: Tactile Switches; Stock 1: 123639; Pricing 1: 1=0.51, 10=0.488, 25=0.47, 100=0.4068, 250=0.3706, 500=0.3435, 1000=0.30734 (USD); ComponentLink1URL: https://datasheet.ciiva.com/2900/p010951-2900788.pdf?src-supplier=Digi-Key; ComponentLink1Description: https://datasheet.ciiva.com/2900/p010951-2900788.pdf?src-supplier=Digi-Key; ComponentLink2URL: https://datasheet.ciiva.com/5284/tl3330-28043-5284129.pdf?src-supplier=Mouser; ComponentLink2Description: https://datasheet.ciiva.com/5284/tl3330-28043-5284129.pdf?src-supplier=Mouser; ComponentLink3URL: https://datasheet.ciiva.com/2900/tl3330-2900789.pdf?src-supplier=Digi-Key; ComponentLink3Description: https://datasheet.ciiva.com/2900/tl3330-2900789.pdf?src-supplier=Digi-Key; ComponentLink4URL: https://datasheet.ciiva.com/2900/tl3330-2900790.pdf?src-supplier=Digi-Key; ComponentLink4Description: https://datasheet.ciiva.com/2900/tl3330-2900790.pdf?src-supplier=Digi-Key
footprint SW_RightAngle
pins: 1, 2 3

## Test Point SMD Round 0.8mm
designator TP?  (value not drawn)  (net tie, no BOM)
Testpoint SMD Round
footprint Test Point Round 0.8mm
pins: 1

## Test Point SMD Round 1.27mm
designator TP?  (value not drawn)  (net tie, no BOM)
Testpoint SMD Round
footprint Test Point Round 1.27mm
pins: 1

## Test Point SMD Round 2mm
designator TP?  (value not drawn)  (net tie, no BOM)
Testpoint SMD Round
footprint Test Point Round 2mm
pins: 1

## Test Point SMD Square 1.27mm
designator TP?  (value not drawn)  (net tie, no BOM)
Testpoint SMD Square
footprint Test Point Square 1.27mm
pins: 1

## TRANS-2-NPN_50Vce-100mA
designator Q?, comment UMH3N  (value not drawn)
Pre-Biased Bipolar Transistor (BJT) 2 NPN - Pre-Biased (Dual) 50V 100mA 250MHz 150mW Surface Mount UMT6
footprint SOT-363 (SC-88) UMH3N
pins: 1 2, 2 B, 3, 4 2, 5 B, 6 3
text: C; E

## TRANS-NPN-BIAS_50V_100mA_250MHz_200mW_SOT23-3
designator Q?, comment DDTC143ZCA-7-F
Small Signal Bipolar Transistor, 0.1A I(C), 50V V(BR)CEO, 1-Element, NPN, Silicon; Manufacturer: Diodes; Package Body Material: Plastic; Max Collector Current: 100mA; DC Current Gain-Min (hFE): 80; Number of Elements: 1; Power Dissipation-Max (Abs): 200mW; Time @ Peak Reflow Temperature-Max (s): 40s; Frequency: 250MHz; Qualification Status: Not Qualified; Supplier: Digi-Key; Supplier Part Number: DDTC143ZCA-FDICT-ND; Manufacturer Part Number: DDTC143ZCA-7-F; RoHS: Yes; Category: BJTs; Stock: 1386439; Pricing: 1=0.19, 10=0.136, 100=0.0733, 500=0.0576, 1000=0.04 (USD); Pins: 3; Package Shape: Rectangular; Terminal Finish: Tin; Transistor Element Material: SILICON; Max Operating Temperature: 150°C; JESD-609 Code: e3; Polarity/Channel Type: NPN; Collector-emitter Voltage-Max: 50V; JESD-30 Code: R-PDSO-G3; Moisture Sensitivity Level: 1; Package Style: SMALL OUTLINEMeter; Peak Reflow Temperature (Cel): 260°C; Surface Mount: Yes; Terminal Form: Gull Wing; Terminal Position: DUAL; Reach SVHC Compliant: Yes; RoHS Compliant: Yes; ComponentLink1URL: https://datasheet.ciiva.com:443/pdfs/VipMasterIC/IC/DIOD/DIODS20605/DIODS20605-1.pdf?src-supplier=IHS+Markit; ComponentLink1Description: https://datasheet.ciiva.com:443/pdfs/VipMasterIC/IC/DIOD/DIODS20605/DIODS20605-1.pdf?src-supplier=IHS+Markit; ComponentLink2URL: http://components.arrow.com/part/dataview/41508542S9348013N2867?src-supplier=Arrow+Electronics; ComponentLink2Description: http://components.arrow.com/part/dataview/41508542S9348013N2867?src-supplier=Arrow+Electronics; ComponentLink3URL: http://www.mouser.com/ds/2/115/ds30330-71322.pdf?src-supplier=Mouser; ComponentLink3Description: http://www.mouser.com/ds/2/115/ds30330-71322.pdf?src-supplier=Mouser; ComponentLink4URL: http://www.alliedelec.com/m/d/be0b5f6f3c5081911d08f51c92d34358.pdf?src-supplier=Allied+Electronics; ComponentLink4Description: http://www.alliedelec.com/m/d/be0b5f6f3c5081911d08f51c92d34358.pdf?src-supplier=Allied+Electronics; ComponentLink5URL: http://uk.rs-online.com/webdocs/1321/0900766b81321d3c.pdf?src-supplier=Rs; ComponentLink5Description: http://uk.rs-online.com/webdocs/1321/0900766b81321d3c.pdf?src-supplier=Rs; ComponentLink6URL: https://www.diodes.com/assets/Datasheets/ds30330.pdf?src-supplier=Digi-Key; ComponentLink6Description: https://www.diodes.com/assets/Datasheets/ds30330.pdf?src-supplier=Digi-Key; ComponentLink7URL: https://datasheet.octopart.com/DDTC143ZCA-7-F-Diodes-Inc.-datasheet-46751235.pdf?src-supplier=Farnell; ComponentLink7Description: https://datasheet.octopart.com/DDTC143ZCA-7-F-Diodes-Inc.-datasheet-46751235.pdf?src-supplier=Farnell; ComponentLink8URL: http://www.diodes.com//datasheets/ds30330.pdf?src-supplier=Avnet; ComponentLink8Description: http://www.diodes.com//datasheets/ds30330.pdf?src-supplier=Avnet; ComponentLink9URL: http://www.diodes.com/_files/datasheets/ds30330.pdf?src-supplier=Future+Electronics; ComponentLink9Description: http://www.diodes.com/_files/datasheets/ds30330.pdf?src-supplier=Future+Electronics
footprint SOT23
pins: 1 B, 2, 3
text: C; E

## TRANS-NPN_25V_1.5A_100MHz_300mW SOT23-3
designator Q?, comment SS8050G  (value not drawn)
Trans Gp Bjt NPN 25V 1.5A 300MW 3-PIN SOT-23 T/r; Manufacturer: Comchip; Manufacturer Part Number: SS8050-G; Transition Frequency: 100MHz; Collector-emitter Voltage-Max: 400mV; Supplier 1: Digi-Key; RoHS: Yes; Category: Transistors; Stock 1: 240377; Pricing 1: 1=0.29, 10=0.236, 100=0.1254, 500=0.0825, 1000=0.0561 (USD); Mount: Surface Mount; Case/Package: TO-236-3; Packaging: Cut Tape; Max Collector Current: 1.5A; Max Power Dissipation: 300mW; Collector Emitter Breakdown Voltage: 25V; Max Breakdown Voltage: 25V; Series: -; RoHS Compliant: Yes; ComponentLink1URL: http://www.comchiptech.com/admin/files/product/SS8050-G RevA181526.pdf?src-supplier=Digi-Key; ComponentLink1Description: http://www.comchiptech.com/admin/files/product/SS8050-G RevA181526.pdf?src-supplier=Digi-Key
footprint SOT23-3 SS8050 (SOT23, 3-Leads, Body 2.90x2.40mm, Pitch 0.95mm, IPC Medium Density)
pins: 1 B, 2, 3
text: C; E

## TRANS-NPN_45V_0.1A_DFN
designator Q?, comment BC847BLP-7B  (value not drawn)
Trans Gp Bjt NPN 45V 0.1A 3-PIN Dfn T/r; Manufacturer 1: Diodes; Max Power Dissipation: 250mW; Collector Base Voltage (VCBO): 50V; Emitter Base Voltage (VEBO): 6V; Collector Emitter Saturation Voltage: 600mV; Max Collector Current: 100mA; Transition Frequency: 100MHz; Supplier 1: Digi-Key; Manufacturer Part Number 1: BC847BLP-7B; RoHS: Yes; Category: BJTs; Stock 1: 801915; Pricing 1: 1=0.37, 10=0.299, 100=0.2036, 500=0.15272, 1000=0.11453, 2000=0.10499, 5000=0.09863 (USD); Mount: Surface Mount; Number of Pins: 3; Contact Plating: Gold; Min Operating Temperature: -55°C; Max Operating Temperature: 150°C; Packaging: Tape and Reel; Package Quantity: 10000; Polarity: NPN; Continuous Collector Current: 100mA; Collector Emitter Breakdown Voltage: 45V; Max Breakdown Voltage: 45V; Gain Bandwidth Product: 100MHz; Collector-emitter Voltage-Max: 600mV; Series: -; Reach SVHC Compliant: Yes; RoHS Compliant: Yes; ComponentLink1URL: http://www.mouser.com/ds/2/115/ds30525-85282.pdf?src-supplier=Mouser; ComponentLink1Description: http://www.mouser.com/ds/2/115/ds30525-85282.pdf?src-supplier=Mouser; ComponentLink2URL: http://components.arrow.com/part/dataview/51721201S9314959N2867?src-supplier=Arrow+Electronics; ComponentLink2Description: http://components.arrow.com/part/dataview/51721201S9314959N2867?src-supplier=Arrow+Electronics; ComponentLink3URL: https://www.diodes.com/assets/Datasheets/ds30525.pdf?src-supplier=Digi-Key; ComponentLink3Description: https://www.diodes.com/assets/Datasheets/ds30525.pdf?src-supplier=Digi-Key; ComponentLink4URL: http://www.diodes.com/datasheets/ds30525.pdf?src-supplier=Avnet; ComponentLink4Description: http://www.diodes.com/datasheets/ds30525.pdf?src-supplier=Avnet; Supplier Part Number 1: BC847BLP-7BDICT-ND
footprint BC847BLP - 3DFN
pins: 1 B, 2, 3
text: C; E

## TRANS-NPN_45V_0.1A_SOT23
designator Q?  (value not drawn)
Part No- BC847,215 / TRANS NPN 45V 0.1A SOT23
pins: 1 B, 2, 3
text: C; E

## TRANS_NPN_160V_600mA_SOT23
designator Q?, comment MMBT5551LT3G
NPN Ic=600mA Vceo=160V hfe=80~250 P=225mW SOT-23; Manufacturer: ON Semiconductor; Max Power Dissipation: 225mW; Max Collector Current: 600mA; Collector-emitter Voltage-Max: 200mV; Collector Base Voltage (VCBO): 180V; Emitter Base Voltage (VEBO): 6V; Collector Emitter Breakdown Voltage: 160V; hFE Min: 80; Collector Emitter Saturation Voltage: 150mV; Power Dissipation: 300mW; Number of Elements: 1; Supplier 1: Digi-Key; Manufacturer Part Number: MMBT5551LT3G; RoHS: Yes; Category: BJTs; Stock 1: 6650; Pricing 1: 1=0.17, 10=0.12, 100=0.065, 500=0.05104, 1000=0.03545, 2000=0.02937, 5000=0.02777 (USD); Case/Package: SOT-23-3; Number of Pins: 3; Min Operating Temperature: -55°C; Max Operating Temperature: 150°C; Packaging: Tape and Reel; Series: -; Polarity: NPN; Package Quantity: 10000; Current Rating: 600mA; Max Breakdown Voltage: 160V; Voltage Rating (DC): 160V; Collector Emitter Voltage (VCEO): 160V; Length: 3.04mm; Width: 2.64mm; Height: 1.11mm; Radiation Hardening: No; RoHS Compliant: Yes; Lead Free: Lead Free; ComponentLink1URL: https://datasheet.ciiva.com/4721/mmbt5550lt1-d-111393-4721331.pdf?src-supplier=Mouser; ComponentLink1Description: https://datasheet.ciiva.com/4721/mmbt5550lt1-d-111393-4721331.pdf?src-supplier=Mouser; ComponentLink2URL: https://datasheet.ciiva.com/15138/getdatasheetpartid-69307-15138969.pdf?src-supplier=Verical; ComponentLink2Description: https://datasheet.ciiva.com/15138/getdatasheetpartid-69307-15138969.pdf?src-supplier=Verical; ComponentLink3URL: https://datasheet.ciiva.com/46624/mmbt5550lt1-d-46624373.pdf?src-supplier=Digi-Key; ComponentLink3Description: https://datasheet.ciiva.com/46624/mmbt5550lt1-d-46624373.pdf?src-supplier=Digi-Key; Supplier Part Number 1: MMBT5551LT3GOSCT-ND
footprint SOT23
pins: 1 B, 2, 3
text: C; E

## TRANS_PHOTO EL357N-G
designator U?  (value not drawn)
OPTOISOLATOR 3.75KV TRANS 4-SOP
footprint SOP4_2.54_SMT EL357N-G (SOP, 4-Leads, Body 4.20x4.40mm, Pitch 2.54mm, IPC Medium Density)
pins: 1 5, 2 4, 3, 4
text: A; K; EL-357

## TRANS_PNP-80V_1A_SOT89
designator Q?, comment BCX53-16TF
Transistor Gp Bjt PNP 80V 1A 3-PIN SC-62 T/r; Manufacturer: Nexperia; Supplier 1: Digi-Key; Manufacturer Part Number: BCX53-16TF; RoHS: No; Category: Transistors; Stock 1: 14092; Pricing 1: 1=0.39, 10=0.276, 100=0.1394, 500=0.12356, 1000=0.09615, 2000=0.08606 (USD); Supplier Part Number 1: 1727-BCX53-16TFCT-ND
footprint SOT89
pins: 1 B, 2,4 3, 3 2
text: C; E

## TRANS_PNP_60V-Vbr_600mA-Ic_350mW SOT23
designator Q?, comment MMBT2907A-TP
TRANS PNP 60V 0.6A SOT23 / Bipolar (BJT) Transistor PNP 60 V 600 mA 200MHz 350 mW Surface Mount SOT-23
footprint SOT23_1.27 MMBT2907A-TP
pins: 1 B, 2, 3
text: C; E

## U.FL-R-SMT-1(80)
designator J?
RF Connector, 1 Contact(s), Male, Board Mount, Surface Mount Terminal, Receptacle; Manufacturer: Hirose; Manufacturer Part Number: U.FL-R-SMT-1(80); Dielectric Withstanding Voltage (AC): 200V; Durability: 30Cycles; Insulation Resistance: 500MR; Number of Ports: 1; Operating Frequency-Max: 6kHz; Body Breadth: 0.122inch; Body Depth: 0.049inch; Body Length: 0.118inch; Mounting Option 1: LOCKING; Reference Standard: UL; Reliability: COMMERCIAL; Supplier: Digikey; Supplier Part Number: 26-U.FL-R-SMT-1(80)CT-ND; RoHS: Yes; Category: RF / Coaxial Connectors; Stock: 118067; Pricing: 1=1.32, 10=1.114, 25=1.068, 50=1.0454, 100=0.9999, 250=0.909, 500=0.8181, 1000=0.7272, 2500=0.65902 (USD); Mounting Technology: Board; Insulation Material: Polymer; Shell Finish: Silver; Shell Material: CuSn; Min Operating Temperature: -40°C; Max Operating Temperature: 90°C; Connector Type: RF CONNECTOR; Body/Shell Style: RECEPTACLE; Contact Gender: Male; Mounting Style: STRAIGHT; Termination: SMD/SMT; Number of Contacts: 1; Reach SVHC Compliant: Yes; RoHS Compliant: Yes; ComponentLink1URL: https://datasheet.ciiva.com:443/pdfs/VipMasterIC/IC/HIRO/HIRO-S-A0007913874/HIRO-S-A0009147602-1.pdf?src-supplier=IHS+Markit; ComponentLink1Description: https://datasheet.ciiva.com:443/pdfs/VipMasterIC/IC/HIRO/HIRO-S-A0007913874/HIRO-S-A0009147602-1.pdf?src-supplier=IHS+Markit; ComponentLink2URL: https://www.hirose.com/product/en/download_file/key_name/U.FL-R-SMT-1%2880%29/category/Specification%20Sheet/doc_file_id/37638/?file_category_id=9&item_id=03310472280&is_series=&src-supplier=Digikey; ComponentLink2Description: https://www.hirose.com/product/en/download_file/key_name/U.FL-R-SMT-1%2880%29/category/Specification%20Sheet/doc_file_id/37638/?file_category_id=9&item_id=03310472280&is_series=&src-supplier=Digikey; ComponentLink3URL: https://datasheet.octopart.com/U.FL-R-SMT-1%2880%29-Hirose-datasheet-157246094.pdf?src-supplier=LKR; ComponentLink3Description: https://datasheet.octopart.com/U.FL-R-SMT-1%2880%29-Hirose-datasheet-157246094.pdf?src-supplier=LKR
footprint UFL Antenna
pins: 1 Feed, 2 GND, 3 GND